# Altium footprint library TPS54331 MOUDLE.PcbLib: 12 footprints
Each footprint in its own frame and in the unit in brackets; x right, y up, seen from the top. Pads: shape width x height; smd on the part's side, far side on the other; paste and mask are expansions set on the pad; w line width, h text height; cw(c..) or ccw(c..) is an arc to the next point about the centre after c.
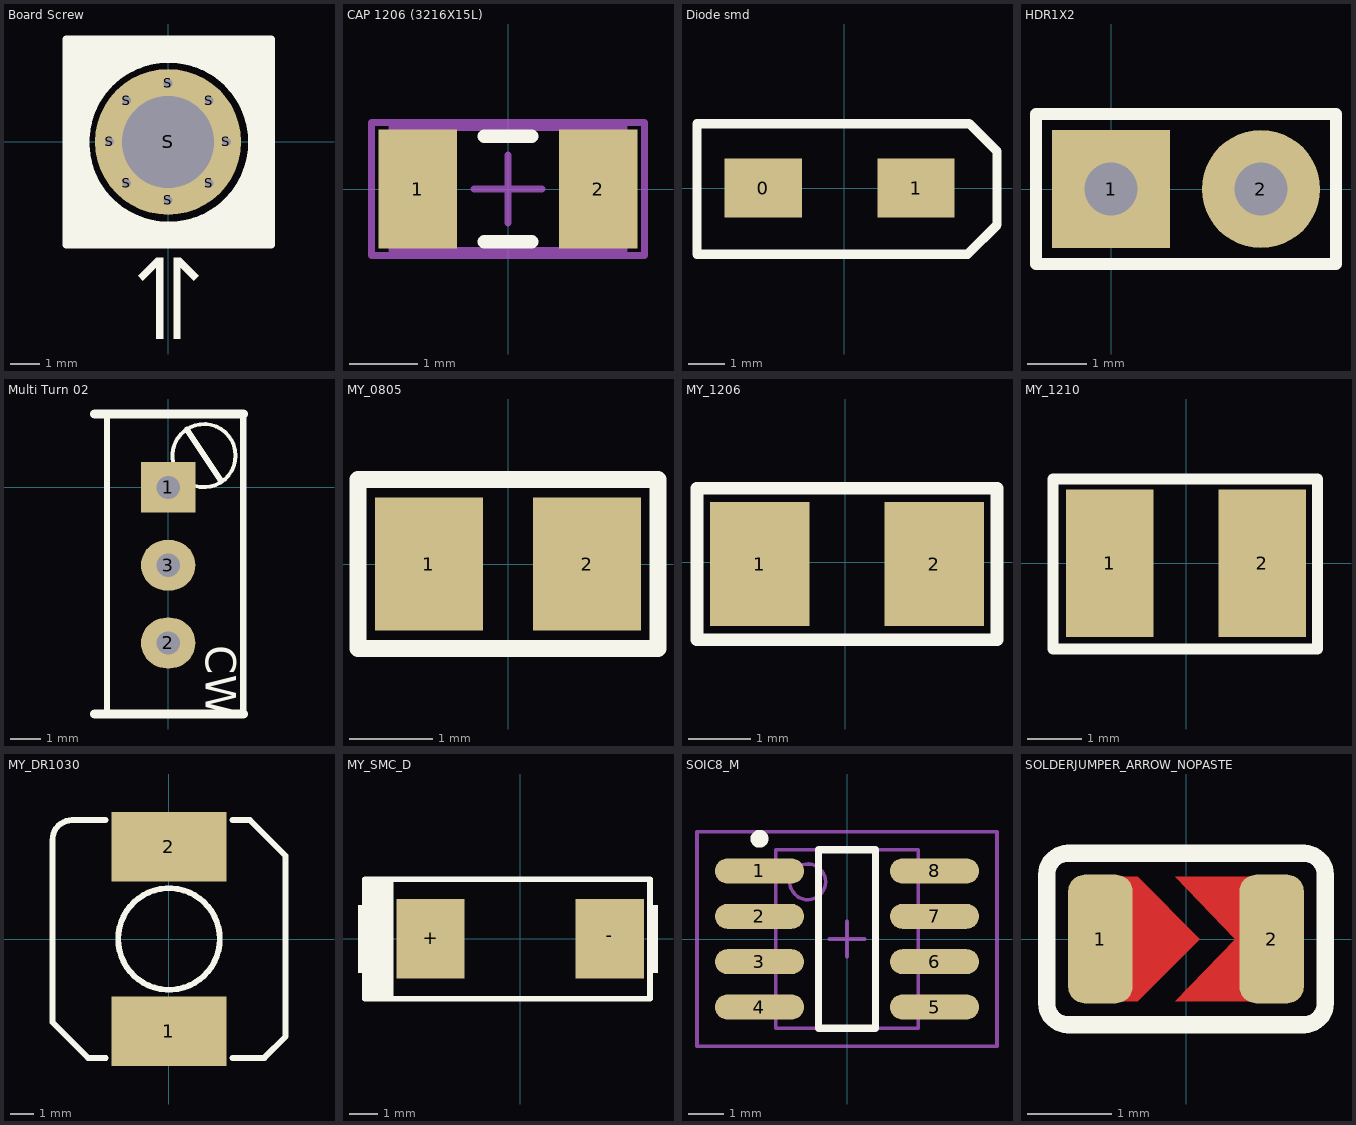
[diagram p0: the footprints below, top view; thin cyan lines are the x and y axes]

## Board Screw [mm]
pads (9):
  round 0.6 hole 0.3: S(-2,0) S(-1.414,-1.414) S(-1.414,1.414) S(0,-2) S(0,2) S(1.414,-1.414) S(1.414,1.414) S(2,0)
  round 5 hole 3.15 mask+0.1: S(0,0)
Top Overlay:
  circle w0.889: c0.025,-0.012 r3.165
  region: -0.156,-3.957 -0.41,-3.957 -0.41,-6.751 -0.156,-6.751
  region: -1.038,-4.586 -0.859,-4.765 -0.23,-4.137 -0.41,-3.957
  rectangle: 0.179,-6.751 0.433,-3.957
  region: 0.433,-3.957 0.253,-4.137 0.882,-4.765 1.062,-4.586
  region: -3.492,3.505 -3.489,3.508 -0.749,3.508 -0.749,3.458 -3.492,0.716
  region: 3.559,3.508 3.556,3.51 0.816,3.51 0.816,3.461 3.559,0.718
  region: 3.559,-3.526 3.556,-3.528 0.816,-3.528 0.816,-3.479 3.559,-0.736
  region: -3.492,-3.528 -3.489,-3.531 -0.749,-3.531 -0.749,-3.482 -3.492,-0.739
  lines w0.254: -3.494,-3.511 -3.494,3.522 3.539,3.522 ; -3.492,-3.528 3.542,-3.528 3.542,3.505
Bottom Overlay:
  circle w0.889: c0.025,-0.012 r3.165
  region: -3.492,-3.528 -3.489,-3.531 -0.749,-3.531 -0.749,-3.482 -3.492,-0.739
  region: 3.559,-3.526 3.556,-3.528 0.816,-3.528 0.816,-3.479 3.559,-0.736
  region: 3.559,3.508 3.556,3.51 0.816,3.51 0.816,3.461 3.559,0.718
  region: -3.492,3.505 -3.489,3.508 -0.749,3.508 -0.749,3.458 -3.492,0.716
  lines w0.254: -3.494,-3.511 -3.494,3.522 3.539,3.522 ; -3.492,-3.528 3.542,-3.528 3.542,3.505

## CAP 1206 (3216X15L) [mm]
pads (2):
  rect 1.15x1.75 smd: 1(-1.325,0) 2(1.325,0)
Top Overlay:
  lines w0.2: -0.35,-0.775 0.35,-0.775 ; -0.35,0.775 0.35,0.775
Mechanical 13:
  lines w0.1: -1.7,-0.9 1.7,-0.9 1.7,0.9 -1.7,0.9 -1.7,-0.9
Mechanical 15:
  lines w0.1: -0.5,0 0.5,0 ; 0,-0.5 0,0.5 ; -2,-0.975 2,-0.975 2,0.975 -2,0.975 -2,-0.975
3D body "1206 cap.STEP": height 1, standoff 0, extent -1.6,-0.8 1.6,0.8

## Diode smd [mm]
pads (2):
  rect 2.1x1.6 smd: 0(-2.2,0) 1(1.95,0)
Top Overlay:
  lines w0.254: -4,-1.8 -4,1.75 3.4,1.75 4.15,1 4.15,-1 3.35,-1.8 -4,-1.8
3D body "User Library-Diode SMD 1N4007-1.STEP": height 2.4, standoff -0.03, extent -2.85,-1.6 2.45,1.51

## HDR1X2 [mm]
pads (2):
  rect 2x2 hole 0.9: 1(0,0)
  round 2 hole 0.9: 2(2.54,0)
Top Overlay:
  lines w0.2: -1.27,-1.27 3.81,-1.27 3.81,1.27 -1.27,1.27 -1.27,-1.27

## Multi Turn 02 [mil]
pads (3):
  rect 70x65 hole 30: 1(0,0)
  oval 70x65 hole 30: 2(0,-200) 3(0,-100)
Top Overlay:
  circle w5: c46.03,40.94 r40.58
  lines w7.87: -78.74,-291.34 -78.74,94.49 ; 24.02,74.41 67.72,8.66 ; 96.46,-291.34 96.46,94.49
  lines w11.81: -94.49,-291.34 96.46,-291.34 ; -94.49,94.49 96.46,94.49
  text "CW" at 48,-203 h39.37
3D body "multiturn.STEP": height 452.18, standoff -75.38, extent -73.23,-285.04 92.52,88.98

## MY_0805 [mm]
pads (2):
  rect 1.3x1.6 smd: 1(-0.95,0) 2(0.95,0)
Top Overlay:
  lines w0.203: -1.803,-1.016 1.803,-1.016 1.803,1.016 -1.803,1.016 -1.803,-1.016
3D body "User Library-SMD RESISTOR-1.STEP": height 0.59, standoff -0.01, extent -1,-0.625 1,0.625

## MY_1206 [mm]
pads (2):
  rect 1.6x2 smd: 1(-1.375,-0.025) 2(1.425,-0.025)
Top Overlay:
  lines w0.203: -2.388,-1.245 2.438,-1.245 2.438,1.194 -2.388,1.194 -2.388,-1.245
3D body "User Library-SMD RESISTOR-1.STEP": height 0.59, standoff -0.01, extent -1.575,-0.825 1.625,0.775

## MY_1210 [mm]
pads (2):
  rect 1.6x2.7 smd: 1(-1.4,0) 2(1.4,0)
Top Overlay:
  lines w0.203: -2.438,-1.575 -2.438,1.549 2.413,1.549 2.413,-1.575 -2.438,-1.575
3D body "User Library-SMD RESISTOR-1.STEP": height 0.59, standoff -0.01, extent -1.6,-1.25 1.6,1.25

## MY_DR1030 [mm]
pads (2):
  rect 5x3 smd: 1(0,-4) 2(0,4)
Top Overlay:
  circle w0.254: c0,0 r2.2
  lines w0.254: -2.749,5.15 -4.199,5.15 ccw(c-4.199,4.299) -5.05,4.299 -5.05,-3.606 -3.506,-5.15 -2.743,-5.15 ; 2.749,-5.15 4.131,-5.15 5.05,-4.231 5.05,3.606 3.506,5.15 2.749,5.15

## MY_SMC_D [mm]
pads (2):
  rect 2.4x2.8 smd: +(-3.15,0) -(3.15,0)
Top Overlay:
  rectangle: -5.707,-1.2 -5.507,1.2
  region: 4.851,1.194 4.651,1.194 4.651,-1.206 4.851,-1.206
  rectangle: -5.557,-2.1 -4.457,2.1
  lines w0.203: 4.516,-2.108 -5.461,-2.108 -5.461,2.1 4.516,2.1 ; 4.567,-2.108 4.567,2.1
3D body "SW3dPS-cap_d.STEP": height 2.83, standoff 0.02, extent -3.647,-2.15 3.647,2.15

## SOIC8_M [mm]
pads (8):
  oval 2.5x0.7 smd: 1(-2.45,1.905) 2(-2.45,0.635) 3(-2.45,-0.635) 4(-2.45,-1.905) 5(2.45,-1.905) 6(2.45,-0.635) 7(2.45,0.635) 8(2.45,1.905)
Top Overlay:
  circle w0.25: c-2.45,2.805 r0.125
  lines w0.2: -0.8,-2.5 -0.8,2.5 0.8,2.5 0.8,-2.5 -0.8,-2.5
Mechanical 13:
  circle w0.1: c-1.1,1.6 r0.5
  lines w0.1: -2,-2.5 -2,2.5 2,2.5 2,-2.5 -2,-2.5
Mechanical 15:
  lines w0.1: -0.5,0 0.5,0 ; 0,-0.5 0,0.5 ; -4.2,-3 -4.2,3 4.2,3 4.2,-3 -4.2,-3
3D body: height 1.75, standoff 0, extent -2,-2.5 2,2.5

## SOLDERJUMPER_ARROW_NOPASTE [mil]
pads (2):
  rrect50% 30x60 smd: 1(-40,0) 2(40,0)
Top Layer:
  region: -45,29 -22.5,29 6.5,0 -22.5,-29 -45,-29
  region: -5,29 23,0 -5,-29 45,-29 45,29
Top Overlay:
  lines w8: -65,-30 ccw(c-55,-30) -55,-40 55,-40 ccw(c55,-30) 65,-30 65,30 ccw(c55,30) 55,40 -55,40 ccw(c-55,30) -65,30 -65,-30
Top Solder:
  rectangle: -57.5,-32.5 57.5,32.5